# Altium footprint library 640454-2.PcbLib: 1 footprints
Each footprint in its own frame and in the unit in brackets; x right, y up, seen from the top. Pads: shape width x height; smd on the part's side, far side on the other; paste and mask are expansions set on the pad; w line width, h text height; cw(c..) or ccw(c..) is an arc to the next point about the centre after c.
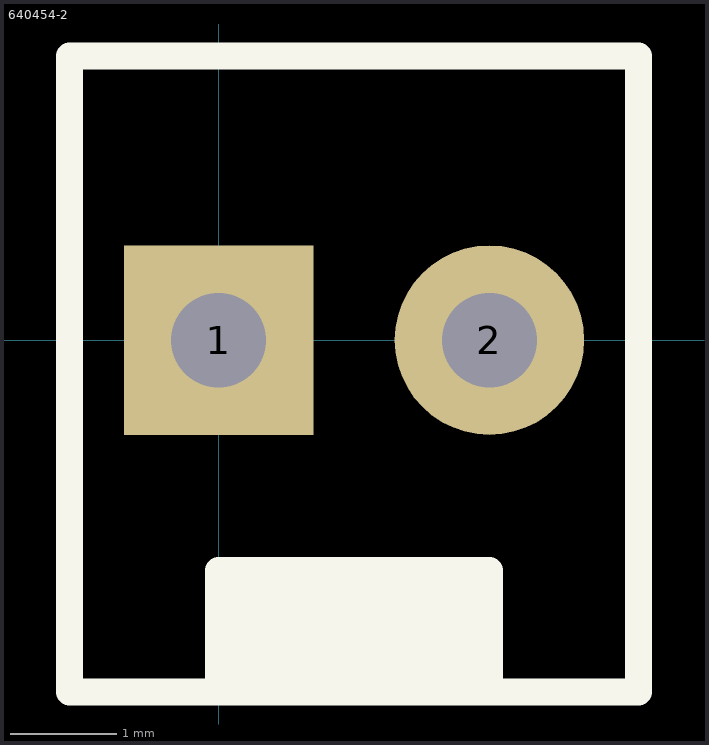
[diagram p0: the footprint, top view; thin cyan lines are the x and y axes]

## 640454-2 [mil] "2-Pin Vertical Header"
height 390
pads (2):
  rect 70x70 hole 35: 1(0,0)
  round 70 hole 35: 2(100,0)
TopOverlay:
  lines w10: 0,-130 0,-85 ; 0,-130 100,-130 100,-85 0,-85 ; 0,-130 0,-125 100,-125 100,-115 0,-115 0,-105 100,-105 100,-95 0,-95 0,-85 ; -55,-130 -55,105 155,105 155,-130 -55,-130
Mechanical4:
  text ".340" at 0,0 h1
3D body: height 394.88, standoff -140.16, extent -50,-125.2 150,100